# EAGLE library part TXB0104 (library wearloc)
Texas Instuments 4-Bit Bidirectional Voltagelevel Translator 1.2V - 3.6V at port A and 1.65V - 5.5V at port B, with VCC1 ≤ VCCB Data Sheet <http://www.ti.com/lit/ds/symlink/txb0104.pdf>
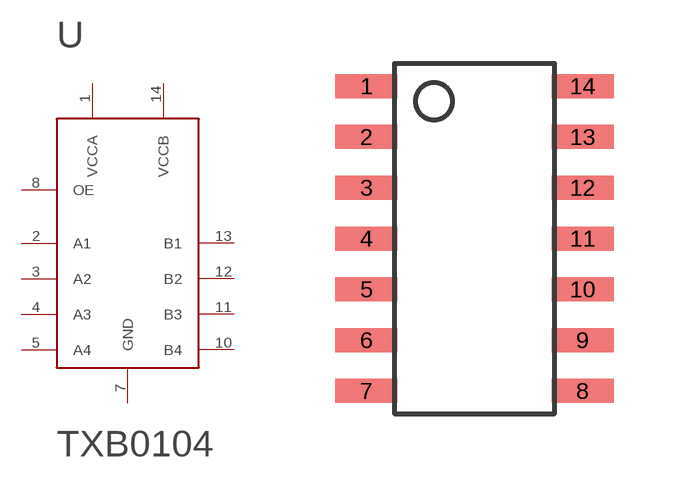
[diagram p2: symbol with the pads of SOIC-14; footprint SOIC-14]

Designator prefix U

## TXB0104D  [SOIC-14]
1  VCCA
2  A1
3  A2
4  A3
5  A4
7  GND  pwr
8  OE
10  B4
11  B3
12  B2
13  B1
14  VCCB

## Footprint SOIC-14 (pad centres in mm)
SOIC-14 package from Texas Instruments
smd 1.55 x 0.6: 1 -2.7,3.81; 2 -2.7,2.54; 3 -2.7,1.27; 4 -2.7,0; 5 -2.7,-1.27; 6 -2.7,-2.54; 7 -2.7,-3.81; 8 2.7,-3.81; 9 2.7,-2.54; 10 2.7,-1.27; 11 2.7,0; 12 2.7,1.27; 13 2.7,2.54; 14 2.7,3.81